# EAGLE library part DS1307ZN+ (library custom)
64 x 8, Serial, I2C Real-Time Clock
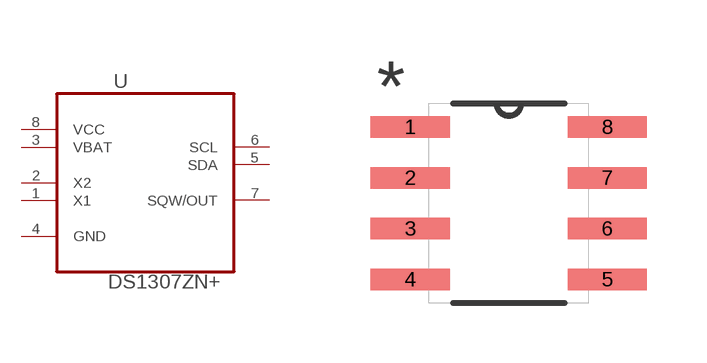
[diagram p1: symbol with the pads of SOIC127P600X175-8N; footprint SOIC127P600X175-8N]

Designator prefix U

## DS1307ZN+ (MPN: DS1307ZN+; OC_FARNELL: 9725253; OC_NEWARK: 73J0081; PACKAGE: SOIC-8; SUPPLIER: Maxim)  [SOIC127P600X175-8N]
1  X1  in
2  X2  out
3  VBAT  in
4  GND  pas
5  SDA
6  SCL  in
7  SQW/OUT
8  VCC  pwr

## Footprint SOIC127P600X175-8N (pad centres in mm)
smd 1.981 x 0.533: 1 -2.464,1.905; 2 -2.464,0.635; 3 -2.464,-0.635; 4 -2.464,-1.905; 5 2.464,-1.905; 6 2.464,-0.635; 7 2.464,0.635; 8 2.464,1.905